# Altium footprint library con-coax.PCBLIB: 28 footprints (part 2 of 2)
Each footprint in its own frame and in the unit in brackets; x right, y up, seen from the top. Pads: shape width x height; smd on the part's side, far side on the other; paste and mask are expansions set on the pad; w line width, h text height; cw(c..) or ccw(c..) is an arc to the next point about the centre after c.
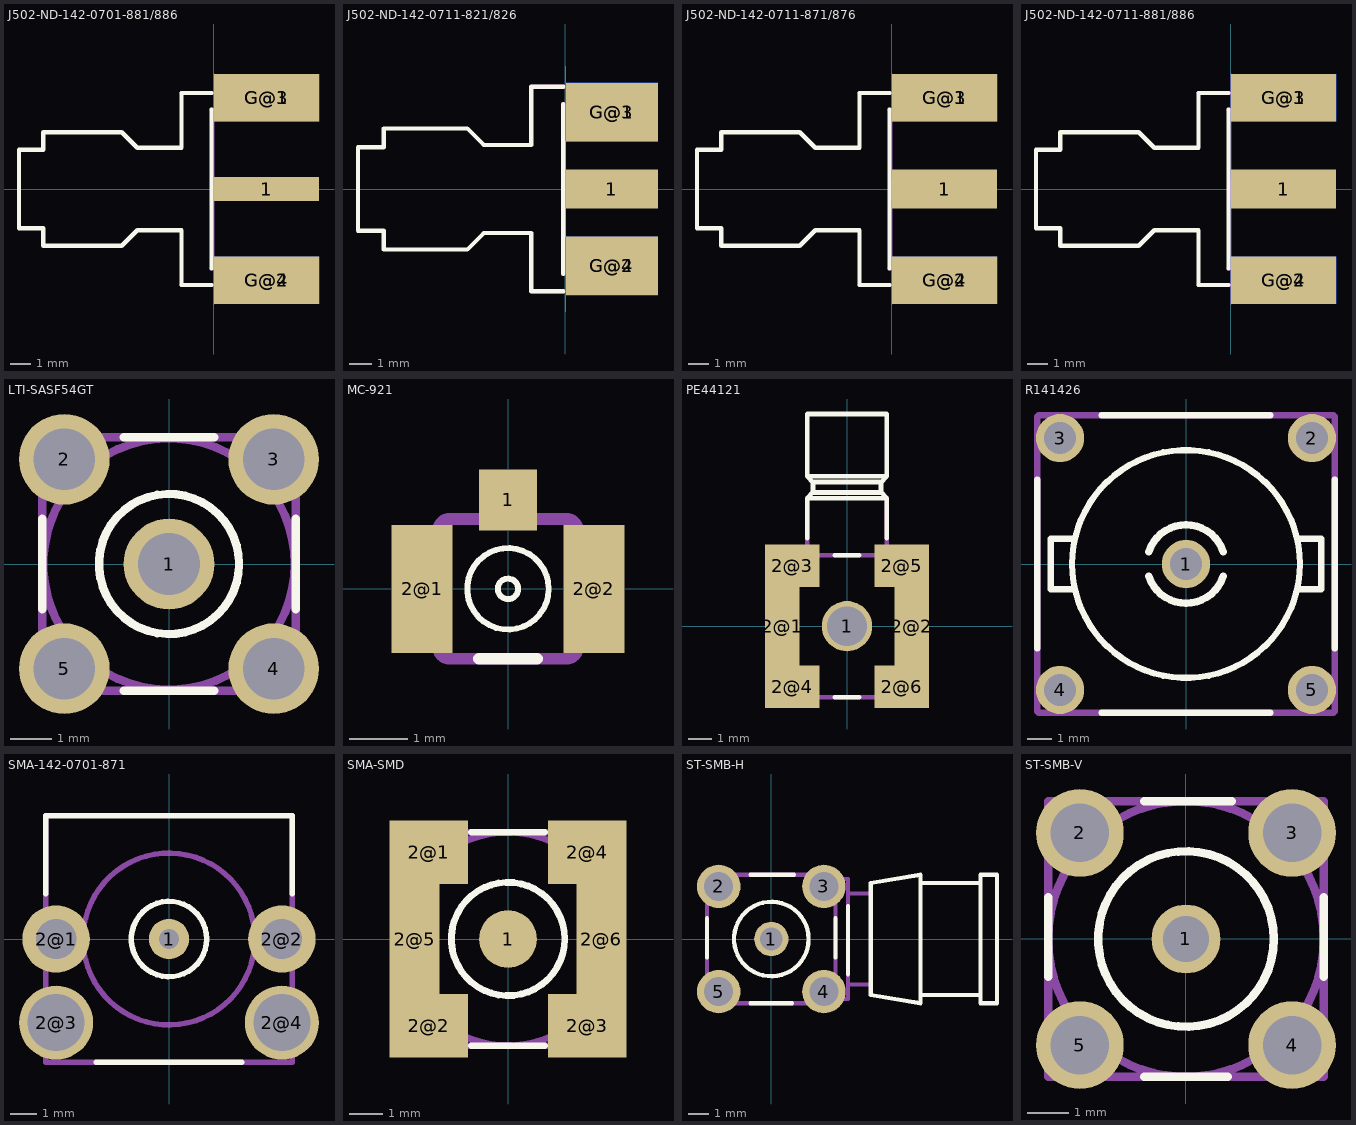
[diagram p1: the footprints below, top view; thin cyan lines are the x and y axes]

## J502-ND-142-0701-881/886 [mil]
pads (5):
  rect 200x45 smd: 1(101,0)
  rect 200x90 smd: G@1(101,174) G@2(101,-174)
  rect 200x90 smd far side: G@3(101,174) G@4(101,-174)
Top Overlay:
  lines w8: -3.94,-183.07 -61.02,-183.07 -61.02,-78.74 -145.67,-78.74 -175.2,-108.27 -324.8,-108.27 -324.8,-74.8 -371.06,-74.8 -371.06,74.8 -324.8,74.8 -324.8,108.27 -175.2,108.27 -145.67,78.74 -61.02,78.74 -61.02,183.07 -3.94,183.07 ; -3.94,-151.57 -3.94,151.57
Mechanical 1:
  lines w0: 0,-220 0,220
Mechanical 16:
  rectangle: -0.98,-19.69 159.45,19.69
  lines w8: -61.02,-183.07 183.07,-183.07 183.07,-151.57 -3.94,-151.57 ; -61.02,183.07 183.07,183.07 183.07,151.57 -3.94,151.57

## J502-ND-142-0711-821/826 [mil]
pads (5):
  rect 165x70 smd: 1(83.28,0)
  rect 165x105 smd: G@1(83.28,137.58) G@2(83.28,-137.58)
  rect 165x105 smd far side: G@3(83.28,137.58) G@4(83.28,-137.58)
Top Overlay:
  lines w8: -3.94,-183.07 -61.02,-183.07 -61.02,-78.74 -145.67,-78.74 -175.2,-108.27 -324.8,-108.27 -324.8,-74.8 -371.06,-74.8 -371.06,74.8 -324.8,74.8 -324.8,108.27 -175.2,108.27 -145.67,78.74 -61.02,78.74 -61.02,183.07 -3.94,183.07 ; -3.94,-151.57 -3.94,151.57
Mechanical 1:
  lines w0: 0,-220 0,220
Mechanical 16:
  rectangle: -0.98,-19.69 159.45,19.69
  lines w8: -61.02,-183.07 161.42,-183.07 161.42,-151.57 -3.94,-151.57 ; -61.02,183.07 161.42,183.07 161.42,151.57 -3.94,151.57

## J502-ND-142-0711-871/876 [mil]
pads (5):
  rect 200x75 smd: 1(101,0)
  rect 200x90 smd: G@1(101,174) G@2(101,-174)
  rect 200x90 smd far side: G@3(101,174) G@4(101,-174)
Top Overlay:
  lines w8: -3.94,-183.07 -61.02,-183.07 -61.02,-78.74 -145.67,-78.74 -175.2,-108.27 -324.8,-108.27 -324.8,-74.8 -371.06,-74.8 -371.06,74.8 -324.8,74.8 -324.8,108.27 -175.2,108.27 -145.67,78.74 -61.02,78.74 -61.02,183.07 -3.94,183.07 ; -3.94,-151.57 -3.94,151.57
Mechanical 1:
  lines w0: 0,-220 0,220
Mechanical 16:
  rectangle: -0.98,-19.69 159.45,19.69
  lines w8: -61.02,-183.07 183.07,-183.07 183.07,-151.57 -3.94,-151.57 ; -61.02,183.07 183.07,183.07 183.07,151.57 -3.94,151.57

## J502-ND-142-0711-881/886 [mil]
pads (5):
  rect 200x75 smd: 1(101,0)
  rect 200x90 smd: G@1(101,174) G@2(101,-174)
  rect 200x90 smd far side: G@3(101,174) G@4(101,-174)
Top Overlay:
  lines w8: -3.94,-183.07 -61.02,-183.07 -61.02,-78.74 -145.67,-78.74 -175.2,-108.27 -324.8,-108.27 -324.8,-74.8 -371.06,-74.8 -371.06,74.8 -324.8,74.8 -324.8,108.27 -175.2,108.27 -145.67,78.74 -61.02,78.74 -61.02,183.07 -3.94,183.07 ; -3.94,-151.57 -3.94,151.57
Mechanical 1:
  lines w0: 0,-220 0,220
Mechanical 16:
  rectangle: -0.98,-19.69 159.45,19.69
  lines w8: -61.02,-183.07 183.07,-183.07 183.07,-151.57 -3.94,-151.57 ; -61.02,183.07 183.07,183.07 183.07,151.57 -3.94,151.57

## LTI-SASF54GT [mil]
pads (5):
  round 86.61 hole 59.06: 1(0,0) 2(-100,100) 3(100,100) 4(100,-100) 5(-100,-100)
Top Overlay:
  circle w8: c0,0 r66.93
  lines w8: -121.06,-43.31 -121.06,43.31 ; -43.31,-121.06 43.31,-121.06 ; -43.31,121.06 43.31,121.06 ; 121.06,-43.31 121.06,43.31
Mechanical 16:
  circle w8: c0,0 r120.08
  lines w8: -121.06,-121.06 121.06,-121.06 121.06,121.06 -121.06,121.06 -121.06,-121.06

## MC-921 [mm]
pads (3):
  rect 1x1.05 smd: 1(0,1.528)
  rect 1.05x2.2 smd: 2@1(-1.475,0) 2@2(1.475,0)
Top Overlay:
  circle w0.102: c0,0 r0.7
  circle w0.102: c0,0 r0.175
  lines w0.203: -0.5,-1.2 0.5,-1.2
Mechanical 16:
  rectangle: -0.3,1.3 0.3,1.55
  lines w0.203: -1.2,-1 ccw(c-1,-1) -1,-1.2 1,-1.2 ccw(c1,-1) 1.2,-1 1.2,1 ccw(c1,1) 1,1.2 -1,1.2 ccw(c-1,1) -1.2,1 -1.2,-1

## PE44121 [mil]
pads (7):
  round 86 hole 68: 1(0,0)
  rect 59.06x279.53 smd: 2@1(-110.24,0) 2@2(110.24,0)
  rect 93x72.83 smd: 2@3(-93.5,103.35) 2@4(-93.5,-103.35) 2@5(93.5,103.35) 2@6(93.5,-103.35)
Top Overlay:
  lines w8: -67.91,150 -67.91,218.5 ; -21.06,-121.06 21.06,-121.06 ; -21.06,121.06 21.06,121.06 ; 67.91,150 67.91,218.5 ; -67.91,218.5 -58.07,228.35 ; -67.91,218.5 67.91,218.5 ; -67.91,255.91 -67.91,362.2 67.91,362.2 67.91,255.91 ; -67.91,255.91 -58.07,246.06 ; -67.91,255.91 67.91,255.91 ; -58.07,228.35 -58.07,246.06 ; -58.07,228.35 58.07,228.35 ; -58.07,246.06 58.07,246.06 ; 58.07,228.35 67.91,218.5 ; 58.07,228.35 58.07,246.06 ; 58.07,246.06 67.91,255.91
Mechanical 16:
  lines w8: -67.91,125 -67.91,218.5 ; 67.91,125 67.91,218.5 ; -121.06,-121.06 121.06,-121.06 121.06,121.06 -121.06,121.06 -121.06,-121.06

## R141426 [mil]
pads (5):
  round 76.5 hole 51: 1(0,0) 2(200,200) 3(-200,200) 4(-200,-200) 5(200,-200)
Top Overlay:
  circle w10: c0,0 r180.95
  lines w10: -236.22,-134.25 -236.22,134.25 ; -180,-40 -215,-40 -215,40 -180,40 ; -134.25,-236.22 134.25,-236.22 ; -134.25,236.22 134.25,236.22 ; 180,-40 215,-40 215,40 180,40 ; 236.22,-134.25 236.22,134.25
  lines w12: -59.06,-19.69 ccw(c0,0) 59.06,-19.69 ; -59.06,19.69 cw(c0,0) 59.06,19.69
Mechanical 16:
  lines w10: -236.22,-234.25 -236.22,234.25 ; -234.25,-236.22 234.25,-236.22 ; -234.25,236.22 234.25,236.22 ; 236.22,-234.25 236.22,234.25

## SMA-142-0701-871 [mil]
pads (5):
  round 60 hole 30: 1(0,0)
  round 100 hole 60: 2@1(-167.5,0) 2@2(167.5,0)
  round 110 hole 85: 2@3(-167.5,-124) 2@4(167.5,-124)
Top Overlay:
  circle w8: c0,0 r55.9
  lines w8: -183.07,66.93 -183.07,183.07 183.07,183.07 183.07,66.93 ; -108.07,-183.07 108.07,-183.07
Mechanical 16:
  circle w8: c0,0 r127.47
  rectangle: -187.99,-19.69 -147.64,19.69
  rectangle: -187.99,-127.69 -147.64,-88.32
  rectangle: -187.99,-160.69 -147.64,-121.32
  region: 187.99,19.69 147.64,19.69 147.64,-19.69 187.99,-19.69
  region: 187.99,-88.32 147.64,-88.32 147.64,-127.69 187.99,-127.69
  region: 187.99,-121.32 147.64,-121.32 147.64,-160.69 187.99,-160.69
  lines w8: -183.07,183.07 -183.07,-183.07 183.07,-183.07 183.07,183.07

## SMA-SMD [mm]
pads (7):
  rrect100% 1.73x1.73 smd: 1(0,0)
  rect 2.35x1.9 smd: 2@1(-2.375,2.6) 2@2(-2.375,-2.6) 2@3(2.375,-2.6) 2@4(2.375,2.6)
  rect 1.5x3.4 smd: 2@5(-2.8,0) 2@6(2.8,0)
Top Overlay:
  circle w0.203: c0,0 r1.7
  lines w0.203: -1.1,-3.2 1.1,-3.2 ; -1.1,3.2 1.1,3.2
Mechanical 16:
  circle w0.203: c0,0 r3.2
  lines w0.203: -3.2,-3.2 3.2,-3.2 3.2,3.2 -3.2,3.2 -3.2,-3.2

## ST-SMB-H [mil]
pads (5):
  round 64.97 hole 43.31: 1(0,0)
  round 82.68 hole 55.12: 2(-100,100) 3(100,100) 4(100,-100) 5(-100,-100)
Top Overlay:
  circle w8: c0,0 r70.87
  lines w8: -122.05,-35.43 -122.05,39.37 ; -39.37,-122.05 39.37,-122.05 ; -39.37,122.05 43.31,122.05 ; 122.05,-35.43 122.05,39.37 ; 145.67,-66.93 145.67,62.99 ; 283.46,-106.3 283.46,106.3 ; 283.46,-106.3 397.64,-106.3 ; 283.46,-106.3 283.46,-122.05 188.98,-106.3 188.98,106.3 283.46,122.05 283.46,106.3 ; 283.46,106.3 397.64,106.3 ; 397.64,-106.3 397.64,106.3 ; 397.64,-106.3 397.64,-122.05 429.13,-122.05 429.13,122.05 397.64,122.05 397.64,106.3
Mechanical 16:
  circle w40: c0,0 r11.81
  lines w8: 125.98,-114.17 145.67,-114.17 145.67,-86.61 ; 125.98,114.17 145.67,114.17 145.67,86.61 ; 145.67,-51.18 145.67,-86.61 ; 145.67,51.18 145.67,86.61 ; 185.04,-86.61 145.67,-86.61 ; 185.04,86.61 145.67,86.61 ; -122.05,-122.05 122.05,-122.05 122.05,122.05 -122.05,122.05 -122.05,-122.05

## ST-SMB-V [mil]
pads (5):
  round 64.97 hole 43.31: 1(0,0)
  round 82.68 hole 55.12: 2(-100,100) 3(100,100) 4(100,-100) 5(-100,-100)
Top Overlay:
  circle w8: c0,0 r82.77
  lines w8: -129.92,-35.43 -129.92,39.37 ; -39.37,-129.92 39.37,-129.92 ; -39.37,129.92 43.31,129.92 ; 129.92,-35.43 129.92,39.37
Mechanical 16:
  circle w40: c0,0 r11.81
  circle w8: c0,0 r129.92
  lines w8: -129.92,-129.92 129.92,-129.92 129.92,129.92 -129.92,129.92 -129.92,-129.92